# Altium footprint library SON80P400X400X80-10N.PcbLib: 1 footprints
Each footprint in its own frame and in the unit in brackets; x right, y up, seen from the top. Pads: shape width x height; smd on the part's side, far side on the other; paste and mask are expansions set on the pad; w line width, h text height; cw(c..) or ccw(c..) is an arc to the next point about the centre after c.
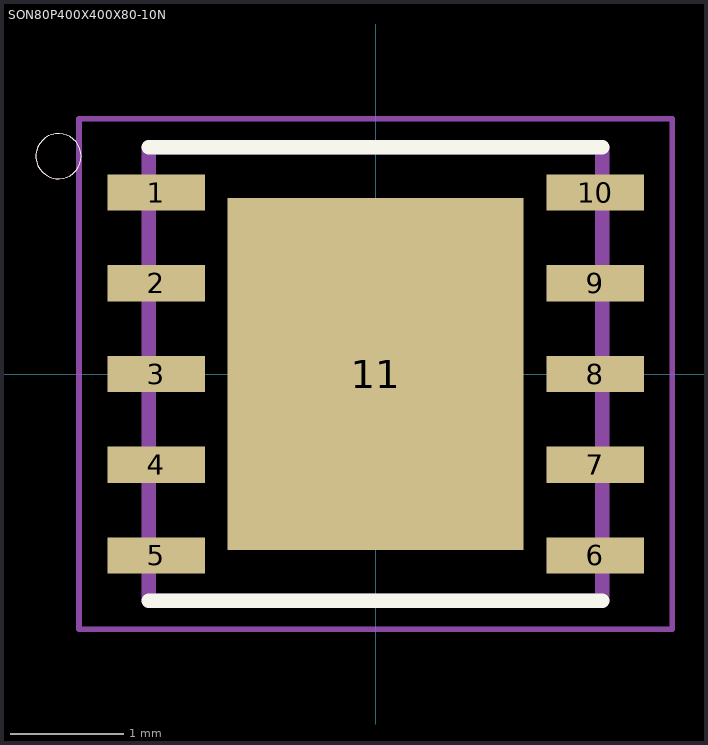
[diagram p0: the footprint, top view; thin cyan lines are the x and y axes]

## SON80P400X400X80-10N [mm]
pads (11):
  rect 0.86x0.32 smd: 1(-1.935,1.6) 2(-1.935,0.8) 3(-1.935,0) 4(-1.935,-0.8) 5(-1.935,-1.6) 6(1.935,-1.6) 7(1.935,-0.8) 8(1.935,0) 9(1.935,0.8) 10(1.935,1.6)
  rect 2.61x3.1 smd: 11(0,0)
Top Overlay:
  circle w0: c-2.795,1.92 r0.2
  lines w0.127: -2,-2 2,-2 ; -2,2 2,2
Top Paste:
  region: -0.727,0.775 0.653,0.775 0.653,-0.863 -0.727,-0.863
Mechanical 1:
  circle w0: c-2.795,1.92 r0.2
  lines w0.127: -2,-2 -2,2 2,2 2,-2 -2,-2
Mechanical 4:
  lines w0.05: -2.615,-2.25 -2.615,2.25 2.615,2.25 2.615,-2.25 -2.615,-2.25